# Altium footprint library DS1120-48F-V13.PcbLib: 1 footprints
Each footprint in its own frame and in the unit in brackets; x right, y up, seen from the top. Pads: shape width x height; smd on the part's side, far side on the other; paste and mask are expansions set on the pad; w line width, h text height; cw(c..) or ccw(c..) is an arc to the next point about the centre after c.
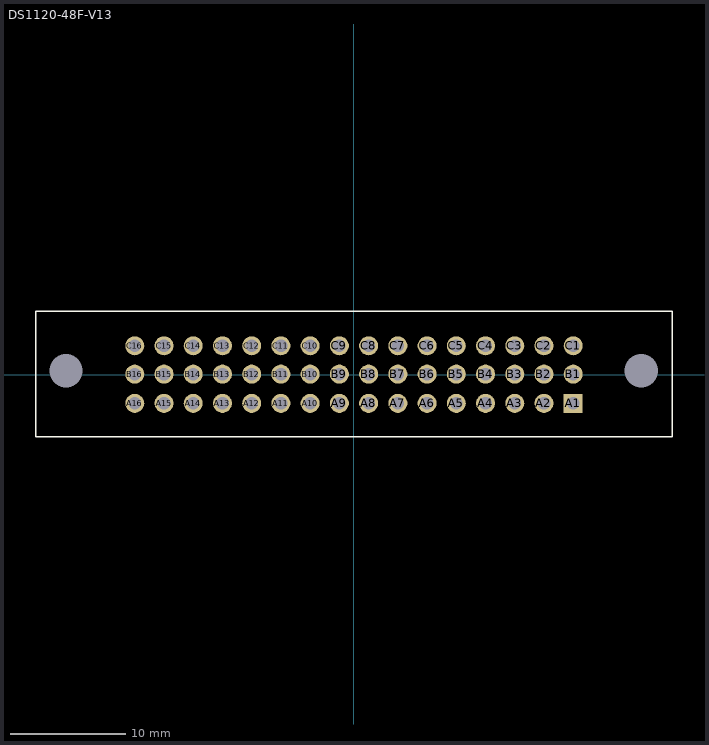
[diagram p0: the footprint, top view; thin cyan lines are the x and y axes]

## DS1120-48F-V13 [mm]
pads (50):
  rect 1.65x1.65 hole 1.1: A1(19.08,-2.5)
  round 1.65 hole 1.1: A2(16.54,-2.5) A3(14,-2.5) A4(11.46,-2.5) A5(8.92,-2.5) A6(6.38,-2.5) A7(3.84,-2.5) A8(1.3,-2.5) A9(-1.24,-2.5) A10(-3.78,-2.5) A11(-6.32,-2.5) A12(-8.86,-2.5) A13(-11.4,-2.5) A14(-13.94,-2.5) A15(-16.48,-2.5) A16(-19.02,-2.5) B1(19.08,0.04) B2(16.54,0.04) B3(14,0.04) B4(11.46,0.04) B5(8.92,0.04) B6(6.38,0.04) B7(3.84,0.04) B8(1.3,0.04) B9(-1.24,0.04) B10(-3.78,0.04) B11(-6.32,0.04) B12(-8.86,0.04) B13(-11.4,0.04) B14(-13.94,0.04) B15(-16.48,0.04) B16(-19.02,0.04) C1(19.08,2.5) C2(16.54,2.5) C3(14,2.5) C4(11.46,2.5) C5(8.92,2.5) C6(6.38,2.5) C7(3.84,2.5) C8(1.3,2.5) C9(-1.24,2.5) C10(-3.78,2.5) C11(-6.32,2.5) C12(-8.86,2.5) C13(-11.4,2.5) C14(-13.94,2.5) C15(-16.48,2.5) C16(-19.02,2.5)
  round 0 hole 2.9 unplated: ""(-25,0.34) ""(25,0.34)
Top Overlay:
  lines w0.15: -27.62,-5.4 27.68,-5.4 27.68,5.5 -27.62,5.5 -27.62,-5.4
3D body "DS1120-48F-V13_fixed.stp": height 11.3, standoff -4.5, extent -27.42,-5.261 27.48,5.331